# EAGLE library part XC95144XL (library Amiga)
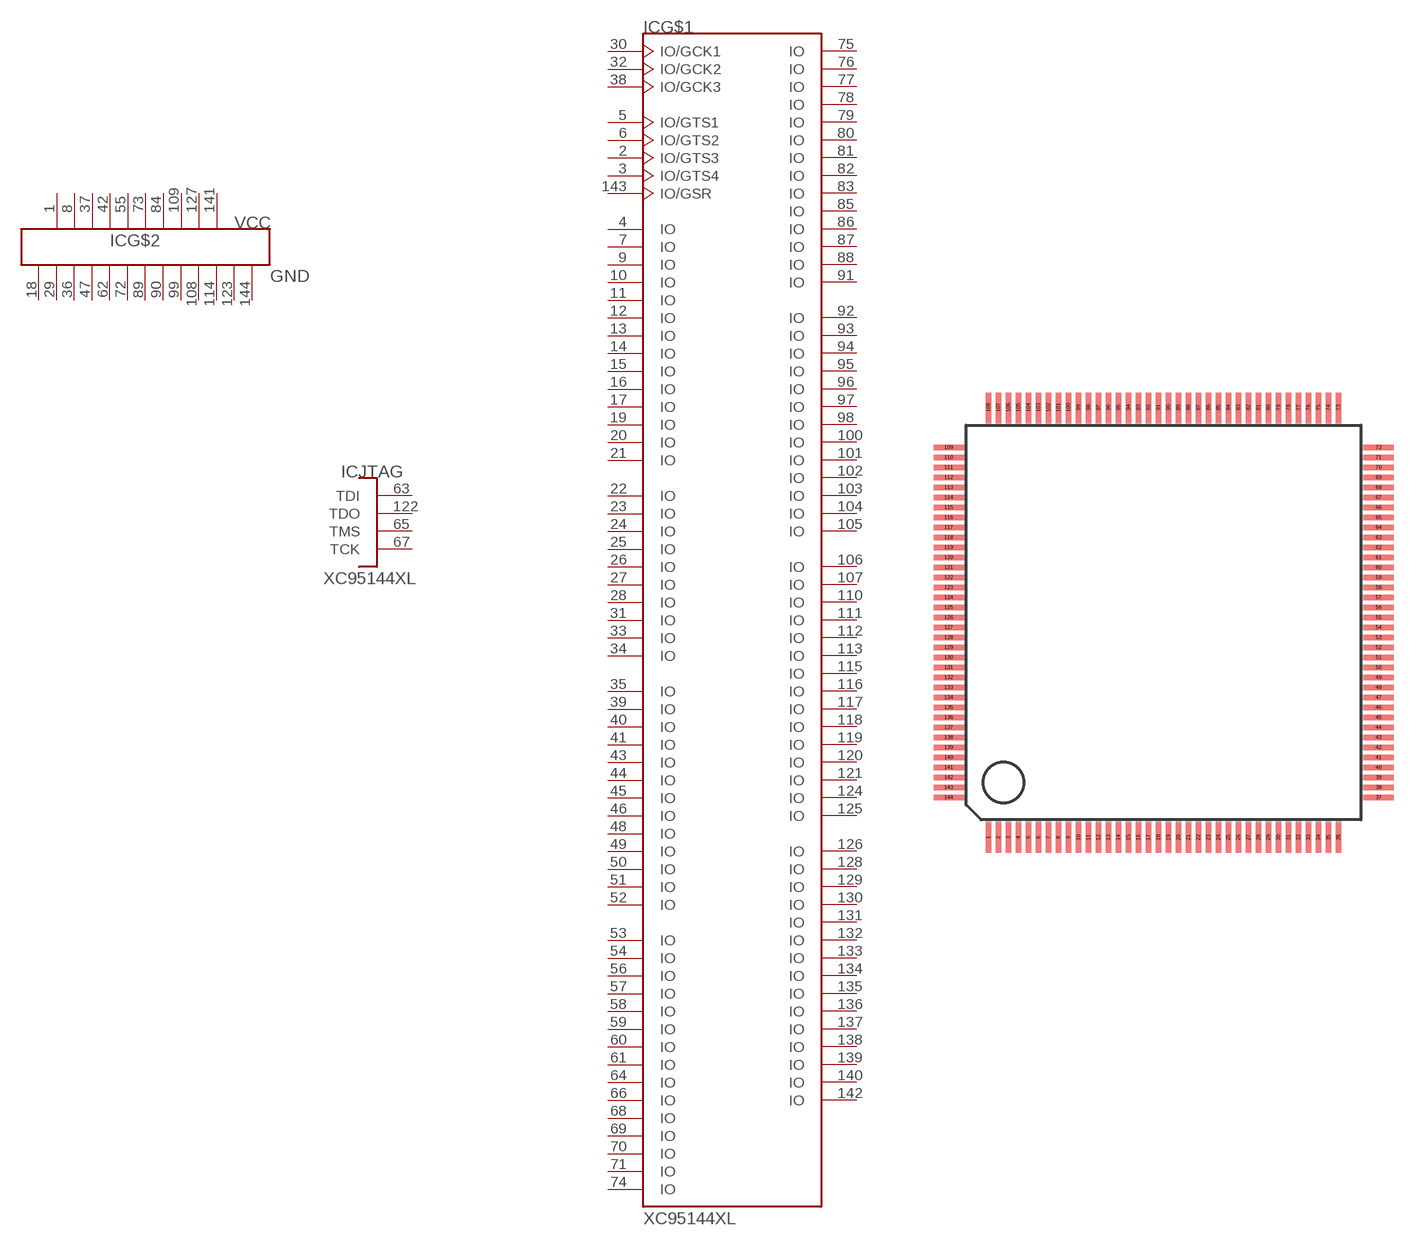
[diagram p19: symbol with the pads of SMD_TQFP144; footprint SMD_TQFP144]

Designator prefix IC; gates G$1=XC95144XL JTAG=JTAG G$2=10VCC-13GND

## XC95144XL-TQ144  [SMD_TQFP144]
1  G$2:VCC  pwr
2  G$1:IO/GTS3
3  G$1:IO/GTS4
4  G$1:IO
5  G$1:IO/GTS1
6  G$1:IO/GTS2
7  G$1:IO
8  G$2:VCC  pwr
9  G$1:IO
10  G$1:IO
11  G$1:IO
12  G$1:IO
13  G$1:IO
14  G$1:IO
15  G$1:IO
16  G$1:IO
17  G$1:IO
18  G$2:GND  pwr
19  G$1:IO
20  G$1:IO
21  G$1:IO
22  G$1:IO
23  G$1:IO
24  G$1:IO
25  G$1:IO
26  G$1:IO
27  G$1:IO
28  G$1:IO
29  G$2:GND  pwr
30  G$1:IO/GCK1
31  G$1:IO
32  G$1:IO/GCK2
33  G$1:IO
34  G$1:IO
35  G$1:IO
36  G$2:GND  pwr
37  G$2:VCC  pwr
38  G$1:IO/GCK3
39  G$1:IO
40  G$1:IO
41  G$1:IO
42  G$2:VCC  pwr
43  G$1:IO
44  G$1:IO
45  G$1:IO
46  G$1:IO
47  G$2:GND  pwr
48  G$1:IO
49  G$1:IO
50  G$1:IO
51  G$1:IO
52  G$1:IO
53  G$1:IO
54  G$1:IO
55  G$2:VCC  pwr
56  G$1:IO
57  G$1:IO
58  G$1:IO
59  G$1:IO
60  G$1:IO
61  G$1:IO
62  G$2:GND  pwr
63  JTAG:TDI  in
64  G$1:IO
65  JTAG:TMS
66  G$1:IO
67  JTAG:TCK
68  G$1:IO
69  G$1:IO
70  G$1:IO
71  G$1:IO
72  G$2:GND  pwr
73  G$2:VCC  pwr
74  G$1:IO
75  G$1:IO
76  G$1:IO
77  G$1:IO
78  G$1:IO
79  G$1:IO
80  G$1:IO
81  G$1:IO
82  G$1:IO
83  G$1:IO
84  G$2:VCC  pwr
85  G$1:IO
86  G$1:IO
87  G$1:IO
88  G$1:IO
89  G$2:GND  pwr
90  G$2:GND  pwr
91  G$1:IO
92  G$1:IO
93  G$1:IO
94  G$1:IO
95  G$1:IO
96  G$1:IO
97  G$1:IO
98  G$1:IO
99  G$2:GND  pwr
100  G$1:IO
101  G$1:IO
102  G$1:IO
103  G$1:IO
104  G$1:IO
105  G$1:IO
106  G$1:IO
107  G$1:IO
108  G$2:GND  pwr
109  G$2:VCC  pwr
110  G$1:IO
111  G$1:IO
112  G$1:IO
113  G$1:IO
114  G$2:GND  pwr
115  G$1:IO
116  G$1:IO
117  G$1:IO
118  G$1:IO
119  G$1:IO
120  G$1:IO
121  G$1:IO
122  JTAG:TDO  out
123  G$2:GND  pwr
124  G$1:IO
125  G$1:IO
126  G$1:IO
127  G$2:VCC  pwr
128  G$1:IO
129  G$1:IO
130  G$1:IO
131  G$1:IO
132  G$1:IO
133  G$1:IO
134  G$1:IO
135  G$1:IO
136  G$1:IO
137  G$1:IO
138  G$1:IO
139  G$1:IO
140  G$1:IO
141  G$2:VCC  pwr
142  G$1:IO
143  G$1:IO/GSR
144  G$2:GND  pwr

## Footprint SMD_TQFP144 (pad centres in mm)
Commodore custom chips
smd 0.27 x 1.5: 1 -8.75,-10.75; 2 -8.25,-10.75; 3 -7.75,-10.75; 4 -7.25,-10.75; 5 -6.75,-10.75; 6 -6.25,-10.75; 7 -5.75,-10.75; 8 -5.25,-10.75; 9 -4.75,-10.75; 10 -4.25,-10.75; 11 -3.75,-10.75; 12 -3.25,-10.75; 13 -2.75,-10.75; 14 -2.25,-10.75; 15 -1.75,-10.75; 16 -1.25,-10.75; 17 -0.75,-10.75; 18 -0.25,-10.75; 19 0.25,-10.75; 20 0.75,-10.75; 21 1.25,-10.75; 22 1.75,-10.75; 23 2.25,-10.75; 24 2.75,-10.75; 25 3.25,-10.75; 26 3.75,-10.75; 27 4.25,-10.75; 28 4.75,-10.75; 29 5.25,-10.75; 30 5.75,-10.75; 31 6.25,-10.75; 32 6.75,-10.75; 33 7.25,-10.75; 34 7.75,-10.75; 35 8.25,-10.75; 36 8.75,-10.75; 73 8.75,10.75; 74 8.25,10.75; 75 7.75,10.75; 76 7.25,10.75; 77 6.75,10.75; 78 6.25,10.75; 79 5.75,10.75; 80 5.25,10.75; 81 4.75,10.75; 82 4.25,10.75; 83 3.75,10.75; 84 3.25,10.75; 85 2.75,10.75; 86 2.25,10.75; 87 1.75,10.75; 88 1.25,10.75; 89 0.75,10.75; 90 0.25,10.75; 91 -0.25,10.75; 92 -0.75,10.75; 93 -1.25,10.75; 94 -1.75,10.75; 95 -2.25,10.75; 96 -2.75,10.75; 97 -3.25,10.75; 98 -3.75,10.75; 99 -4.25,10.75; 100 -4.75,10.75; 101 -5.25,10.75; 102 -5.75,10.75; 103 -6.25,10.75; 104 -6.75,10.75; 105 -7.25,10.75; 106 -7.75,10.75; 107 -8.25,10.75; 108 -8.75,10.75
smd 1.5 x 0.27: 37 10.75,-8.75; 38 10.75,-8.25; 39 10.75,-7.75; 40 10.75,-7.25; 41 10.75,-6.75; 42 10.75,-6.25; 43 10.75,-5.75; 44 10.75,-5.25; 45 10.75,-4.75; 46 10.75,-4.25; 47 10.75,-3.75; 48 10.75,-3.25; 49 10.75,-2.75; 50 10.75,-2.25; 51 10.75,-1.75; 52 10.75,-1.25; 53 10.75,-0.75; 54 10.75,-0.25; 55 10.75,0.25; 56 10.75,0.75; 57 10.75,1.25; 58 10.75,1.75; 59 10.75,2.25; 60 10.75,2.75; 61 10.75,3.25; 62 10.75,3.75; 63 10.75,4.25; 64 10.75,4.75; 65 10.75,5.25; 66 10.75,5.75; 67 10.75,6.25; 68 10.75,6.75; 69 10.75,7.25; 70 10.75,7.75; 71 10.75,8.25; 72 10.75,8.75; 109 -10.75,8.75; 110 -10.75,8.25; 111 -10.75,7.75; 112 -10.75,7.25; 113 -10.75,6.75; 114 -10.75,6.25; 115 -10.75,5.75; 116 -10.75,5.25; 117 -10.75,4.75; 118 -10.75,4.25; 119 -10.75,3.75; 120 -10.75,3.25; 121 -10.75,2.75; 122 -10.75,2.25; 123 -10.75,1.75; 124 -10.75,1.25; 125 -10.75,0.75; 126 -10.75,0.25; 127 -10.75,-0.25; 128 -10.75,-0.75; 129 -10.75,-1.25; 130 -10.75,-1.75; 131 -10.75,-2.25; 132 -10.75,-2.75; 133 -10.75,-3.25; 134 -10.75,-3.75; 135 -10.75,-4.25; 136 -10.75,-4.75; 137 -10.75,-5.25; 138 -10.75,-5.75; 139 -10.75,-6.25; 140 -10.75,-6.75; 141 -10.75,-7.25; 142 -10.75,-7.75; 143 -10.75,-8.25; 144 -10.75,-8.75